# EAGLE library part RELAY_MODULE (library rx)
Multi connection point. Often used as Generic Header-pin footprint for 0.1 inch spaced/style header connections On any of the 0.1 inch spaced packages, you can populate with these: Break Away Headers - Straight <https://www.sparkfun.com/products/116> (PRT-00116) Break Away Male Headers - Right Angle <https://www.sparkfun.com/products/553> (PRT-00553) Female Headers <https://www.sparkfun.com/products/115> (PRT-00115) Break Away Headers - Machine Pin <https://www.sparkfun.com/products/117> (PRT-00117) Break Away Female Headers - Swiss Machine Pin <https://www.sparkfun.com/products/743> (PRT-00743)
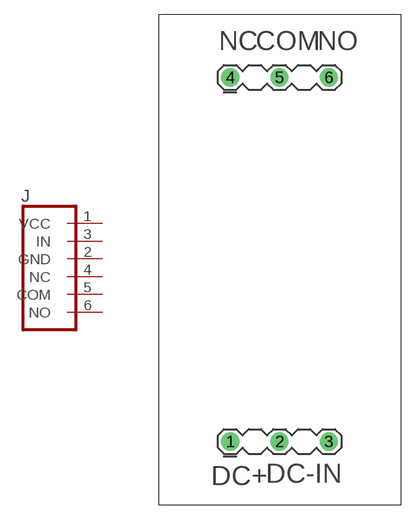
[diagram p3: symbol with the pads of RELAY_MODULE; footprint RELAY_MODULE]

Designator prefix J

## RELAY_MODULE  [RELAY_MODULE]
1  VCC
2  GND
3  IN
4  NC
5  COM
6  NO

## Footprint RELAY_MODULE (pad centres in mm)
Plated Through Hole - 2x4 Specifications: Pin count:8 Pin pitch:0.1" Example device(s): CONN_04x2
drill 1.016 pad 1.88: 1 -4.91,-22.38; 2 0.17,-22.38; 3 5.25,-22.38; 4 -4.91,15.12; 5 0.17,15.12; 6 5.25,15.12